# Altium schematic symbol library 107CKE100MLQ.SchLib: 1 symbol
Pins are listed as number, name and electrical type; pins without a type are passive.

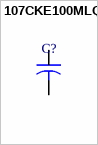
[diagram p0: symbol 107CKE100MLQ]

## 107CKE100MLQ
designator C?  (value not drawn)
PartNumber: 107CKE100MLQ; Manufacturer: Illinois Capacitor; PartDescription: CAP ALUM 100UF 20% 100V RADIAL; Value: 100uF; Supplier 1: Digi-Key; Supplier Part Number 1: 1572-1657-ND; Package Type: 2 TH
footprint 107CKE100MLQ
pins: 1, 2